# Altium footprint library TSOP-54.PcbLib: 1 footprints
Each footprint in its own frame and in the unit in brackets; x right, y up, seen from the top. Pads: shape width x height; smd on the part's side, far side on the other; paste and mask are expansions set on the pad; w line width, h text height; cw(c..) or ccw(c..) is an arc to the next point about the centre after c.
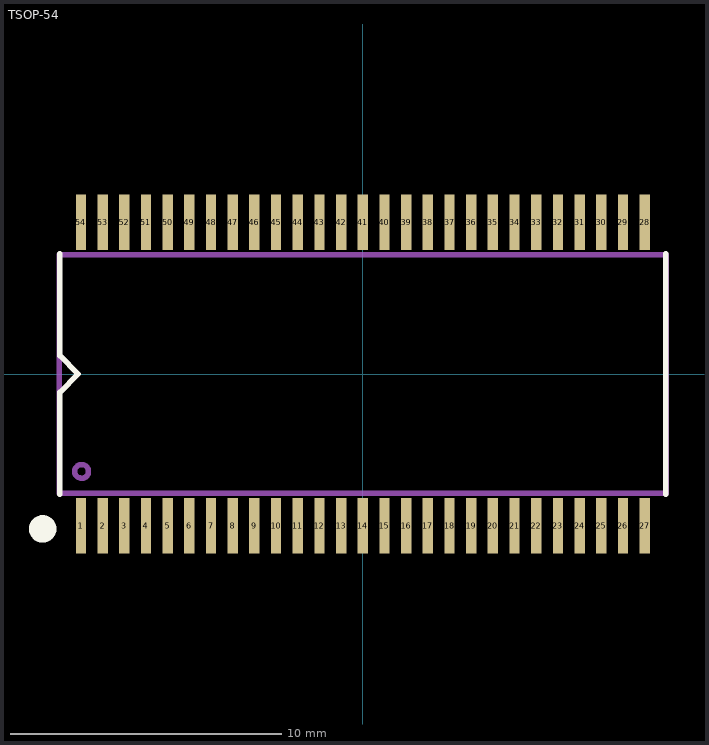
[diagram p0: the footprint, top view; thin cyan lines are the x and y axes]

## TSOP-54 [mil]
pads (54):
  rect 15x80 smd: 1(-409.45,-220.47) 2(-377.95,-220.47) 3(-346.46,-220.47) 4(-314.96,-220.47) 5(-283.46,-220.47) 6(-251.97,-220.47) 7(-220.47,-220.47) 8(-188.98,-220.47) 9(-157.48,-220.47) 10(-125.98,-220.47) 11(-94.49,-220.47) 12(-62.99,-220.47) 13(-31.5,-220.47) 14(0,-220.47) 15(31.5,-220.47) 16(62.99,-220.47) 17(94.49,-220.47) 18(125.98,-220.47) 19(157.48,-220.47) 20(188.98,-220.47) 21(220.47,-220.47) 22(251.97,-220.47) 23(283.46,-220.47) 24(314.96,-220.47) 25(346.46,-220.47) 26(377.95,-220.47) 27(409.45,-220.47) 28(409.45,220.47) 29(377.95,220.47) 30(346.46,220.47) 31(314.96,220.47) 32(283.46,220.47) 33(251.97,220.47) 34(220.47,220.47) 35(188.98,220.47) 36(157.48,220.47) 37(125.98,220.47) 38(94.49,220.47) 39(62.99,220.47) 40(31.5,220.47) 41(0,220.47) 42(-31.5,220.47) 43(-62.99,220.47) 44(-94.49,220.47) 45(-125.98,220.47) 46(-157.48,220.47) 47(-188.98,220.47) 48(-220.47,220.47) 49(-251.97,220.47) 50(-283.46,220.47) 51(-314.96,220.47) 52(-346.46,220.47) 53(-377.95,220.47) 54(-409.45,220.47)
Top Overlay:
  circle w20: c-465,-225 r10
  lines w7.87: -440,-175 -440,-26.61 -413.39,0 -440,26.61 -440,175 ; 440,-175 440,175
Mechanical 13:
  circle w7.87: c-408.46,-141.46 r10
  lines w7.87: -440.94,-173.23 -440.95,173.23 440.94,173.23 440.94,-173.23 -440.94,-173.23
3D body: height 43.31, standoff 0, extent -444.95,-177.23 444.94,177.23